# Altium schematic symbol library APSS Generic Components.SchLib: 13 symbols
Pins are listed as number, name and electrical type; pins without a type are passive.

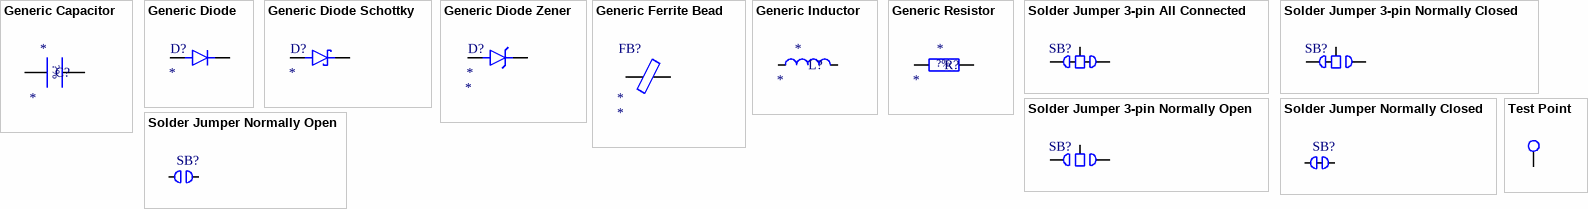
[diagram p0: symbols Generic Capacitor to Test Point]

## Generic Capacitor
designator C?
Passive - Capacitor, Generic; Tolerance: ?%; MF Part No.: *; Value: *
pins: 1, 2

## Generic Diode
designator D?
Diode - Diode, Generic; MF Part No.: *
pins: A, C

## Generic Diode Schottky
designator D?
Diode - Schottky, Generic; MF Part No.: *
pins: A, C

## Generic Diode Zener
designator D?
Diode - Zener, Generic; Value: *; MF Part No.: *
pins: A, C

## Generic Ferrite Bead
designator FB?
Passive - Ferrite Bead, Generic; MF Part No.: *; Value: *
pins: 1, 2

## Generic Inductor
designator L?
Passive - Inductor, Generic; MF Part No.: *; Value: *
pins: 1, 2

## Generic Resistor
designator R?
Passive - Resistor, Generic; Tolerance: ?%; MF Part No.: *; Value: *
footprint RESISTOR_0805_2012M-50N (Resistor, 0805 (2012 metric), nominal pads)
pins: 1, 2

## Solder Jumper 3-pin All Connected
designator SB?  (value not drawn)  (net tie, no BOM)
DEBUG: DEBUG
footprint Solder Bridge 3-pin All Shorted 0201
footprint Solder Bridge 3-pin 0402 All Shorted
footprint Solder Bridge 3-pin 0603 All Shorted
pins: 1 Common, 2, 3

## Solder Jumper 3-pin Normally Closed
designator SB?, comment Solder Jumper 3-pin Left connected  (value not drawn)  (net tie, no BOM)
DEBUG: DEBUG
footprint Solder Bridge 3-pin Left shorted 0201
footprint Solder Bridge 3-pin 0603 Left Shorted
footprint Solder Bridge 3-pin 0402 Left Shorted
pins: 1 Common, 2, 3

## Solder Jumper 3-pin Normally Open
designator SB?  (value not drawn)  (no BOM)
DEBUG: DEBUG
footprint Solder Bridge 3-pin Open 0201
footprint Solder Bridge 3-pin 0603 Open
footprint Solder Bridge 3-pin 0402 Open
pins: 1 Common, 2, 3

## Solder Jumper Normally Closed
designator SB?  (value not drawn)  (net tie, no BOM)
DEBUG: DEBUG
footprint Solder Bridge Closed 0201
footprint Solder Bridge Chevron 0402 Closed (Small solder bridge. Shorted.)
footprint Solder bridge Chevron 0603 Closed (Solder bridge for robust, easy to access bridges that are likely to be soldered and unsoldered often. Shorted.)
pins: 1, 2

## Solder Jumper Normally Open
designator SB?  (value not drawn)  (no BOM)
DEBUG: DEBUG
footprint Solder Bridge Open 0201
footprint Solder Bridge Chevron 0402 Open (Small solder bridge. Open.)
footprint Solder bridge Chevron 0603 Open (Solder bridge for robust, easy to access bridges that are likely to be soldered and unsoldered often. Open.)
pins: 1, 2

## Test Point
designator T*  (value not drawn)  (no BOM)
footprint Test Point Hole (A through-hole pad large enough to hold an oscilloscope probe tip unaided. Suitable for nets that are likely to be probed often, or probed simultaneously with other nets.)
footprint Test Point Pad Large (Exposed copper pad, 1mm dia. Very easy to probe.)
footprint Test Point Pad Medium (Exposed copper pad, 0.8mm dia.)
footprint Test Point Pad Small (Exposed copper pad, 0.6mm dia.)
footprint Test Point Via (A small via that can be probed by the tip of an oscilloscope probe. It is too small to fit a probe tip, so it must be manually held in place. Suitable for nets that are unlikely to be frequently probed.)
pins: 1 0